# Altium footprint library switch-dil.PCBLIB: 88 footprints (part 1 of 6)
Each footprint in its own frame and in the unit in brackets; x right, y up, seen from the top. Pads: shape width x height; smd on the part's side, far side on the other; paste and mask are expansions set on the pad; w line width, h text height; cw(c..) or ccw(c..) is an arc to the next point about the centre after c.
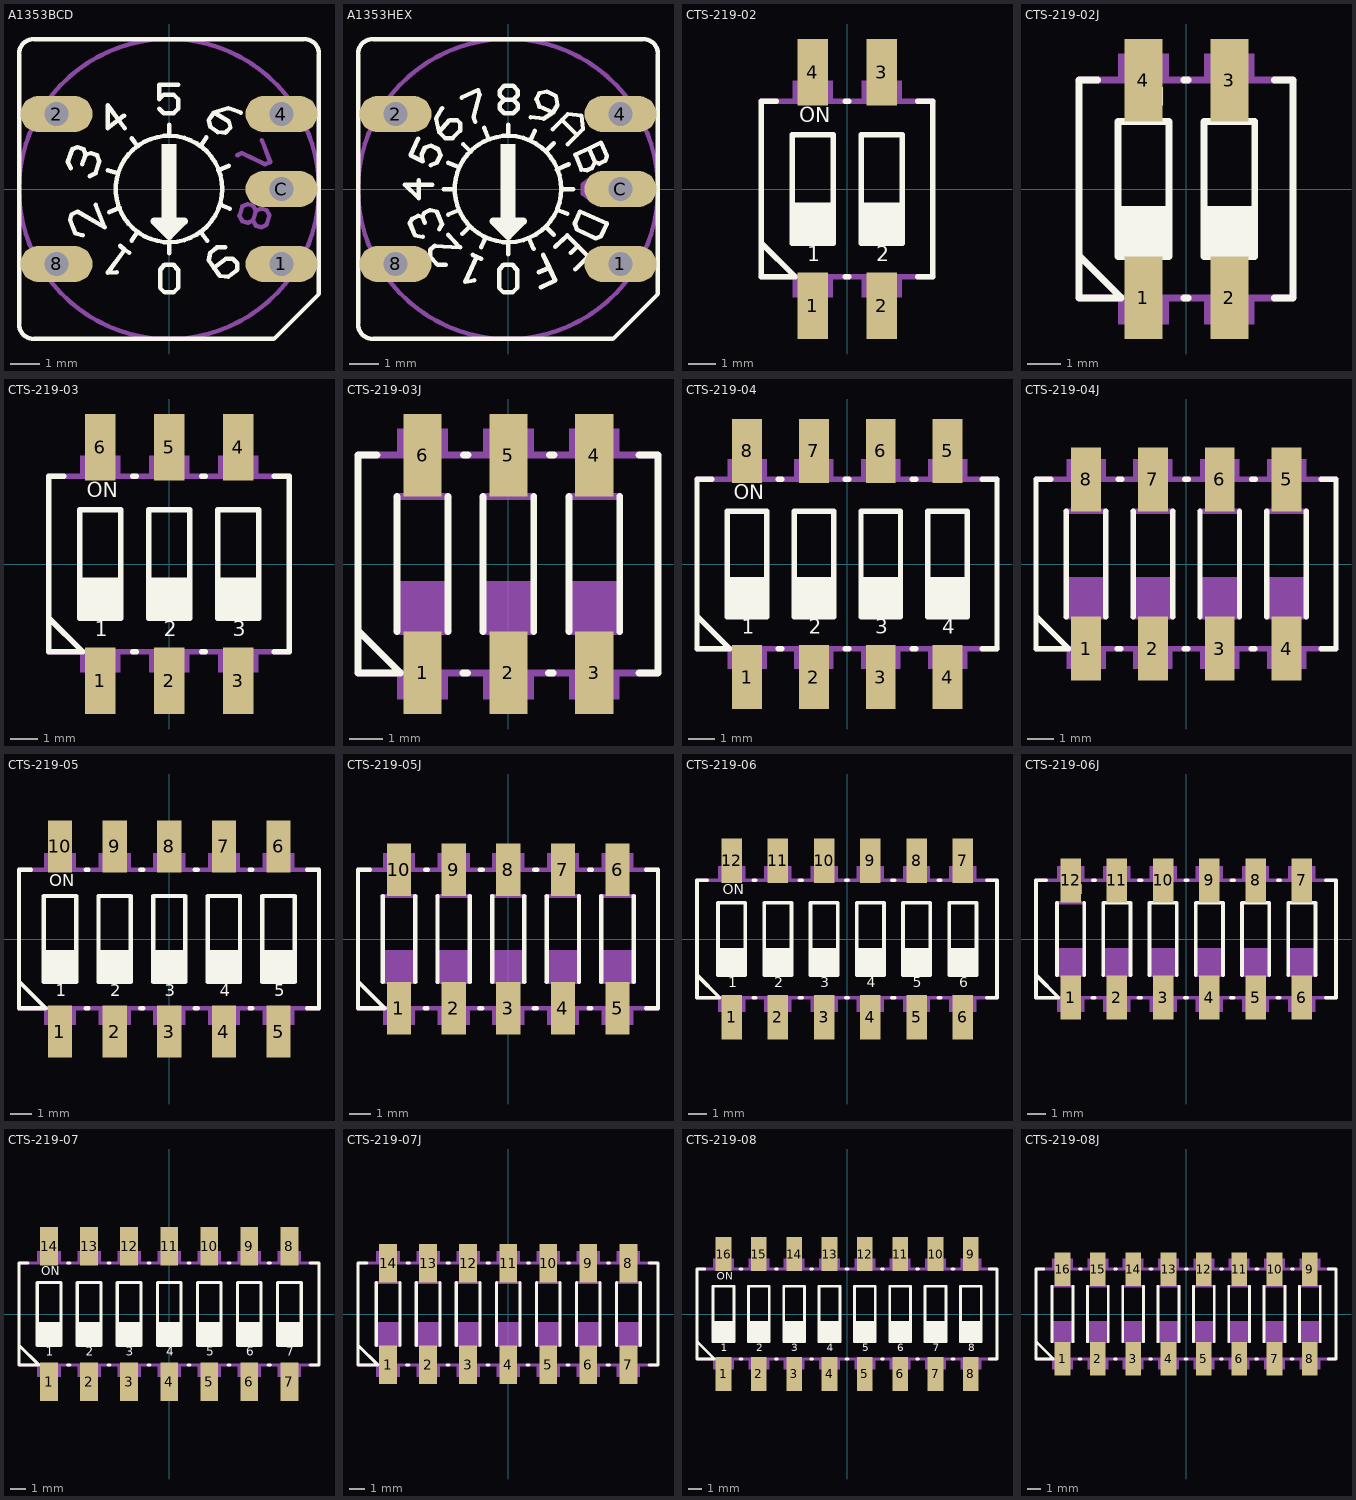
[diagram p0: the footprints below, top view; thin cyan lines are the x and y axes]

## A1353BCD [mil]
pads (5):
  oval 96x48 hole 32: 1(150,-100) 2(-150,100) 4(150,100) 8(-150,-100) C(150,0)
Top Overlay:
  circle w6: c0,0 r71
  rectangle: -10,-40 10,60
  lines w6: -131,28 -135,36 -129,53 -122,56 -114,53 -111,46 ; -116,33 -111,46 ; -115,-62 -125,-59 -132,-41 -130,-34 -122,-30 -86,-51 -98,-21 ; -106,17 -98,21 -93,37 -96,45 -104,48 -111,46 ; -82,25 -68,21 ; -80,-31 -66,-25 ; -70,-111 -82,-112 -59,-81 ; -65,-76 -59,-81 ; -60,98 -82,81 -82,112 -59,81 ; -53,-85 -59,-81 ; -50,-69 -42,-57 ; -50,68 -42,57 ; -13,107 -7,101 6,101 12,107 12,120 6,126 -7,126 -13,120 -13,139 12,139 ; 0,-86 0,-72 ; 0,71 0,86 ; 42,-57 51,-69 ; 42,57 50,69 ; 66,25 80,31 ; 68,-21 81,-26 ; 75,-78 64,-78 55,-85 53,-95 60,-105 ; 96,102 79,108 60,102 ; 60,-105 76,-93 85,-93 91,-99 91,-108 79,-117 68,-116 60,-105 ; 60,102 80,90 82,82 75,75 65,76 55,83 53,92 60,102 ; -200,-180 ccw(c-180,-180) -180,-200 140,-200 200,-140 200,180 ccw(c180,180) 180,200 -180,200 ccw(c-180,180) -200,180 -200,-180 ; -12,-132 -12,-108 -6,-101 6,-101 12,-108 12,-132 6,-138 -6,-138 -12,-132
  lines w10: -10,-48 10,-48 ; 0,-58 0,-53 ; -20,-43 0,-63 20,-43 -20,-43
Mechanical 16:
  circle w6: c0,0 r200
  lines w6: 91,45 97,48 128,33 135,36 124,65 ; 112,-42 116,-29 ; 112,-42 105,-45 98,-43 94,-36 98,-23 105,-20 112,-22 116,-29 ; 112,-42 116,-49 123,-51 130,-48 134,-35 130,-28 123,-26 116,-29

## A1353HEX [mil]
pads (5):
  oval 96x48 hole 32: 1(150,-100) 2(-150,100) 4(150,100) 8(-150,-100) C(150,0)
Top Overlay:
  circle w6: c0,0 r71
  rectangle: -10,-40 10,60
  lines w6: -120,67 -130,45 -114,37 -115,46 -111,55 -103,58 -93,53 -90,45 -95,35 -103,32 ; -119,12 -119,-12 -138,6 -101,6 ; -114,-64 -124,-62 -131,-45 -128,-40 -120,-36 -114,-37 ; -111,-45 -114,-37 ; -92,-54 -88,-47 -95,-30 -104,-28 -112,-32 -114,-37 ; -88,108 -96,94 -92,76 ; -86,0 -71,0 ; -83,-101 -94,-101 -104,-90 -104,-81 -98,-76 -64,-78 -80,-61 ; -80,-34 -65,-28 ; -80,35 -65,29 ; -62,122 -40,132 -38,126 -46,96 -44,90 ; -61,-60 -51,-50 ; -60,60 -50,50 ; -47,-88 -36,-93 ; -45,-122 -57,-124 -42,-91 ; -36,-78 -30,-65 ; -32,82 -26,67 ; 0,-87 0,-72 ; 0,71 0,86 ; 28,-66 34,-80 ; 30,65 36,78 ; 30,96 48,94 60,102 ; 41,-111 55,-105 ; 44,-131 63,-122 55,-105 ; 47,-88 55,-105 ; 51,-51 61,-61 ; 51,51 61,61 ; 60,80 72,92 ; 63,-77 79,-62 93,-76 ; 65,26 81,33 ; 66,-28 79,-33 ; 72,0 87,0 ; 80,60 92,72 ; 84,-85 93,-76 ; 90,-107 107,-90 93,-76 ; -92,76 -78,92 -68,92 -64,88 -64,78 -74,68 -84,68 -92,76 ; -5,119 -11,125 -11,131 -5,138 7,138 13,131 13,125 7,119 ; -5,119 -11,113 -11,107 -5,101 7,101 13,107 13,113 7,119 ; -5,119 7,119 ; 60,102 42,110 38,120 42,128 52,130 64,124 66,112 60,102 ; 72,92 92,72 ; 72,92 80,100 98,98 100,80 92,72 ; 108,54 90,46 98,26 105,25 112,28 116,36 ; 108,54 116,36 ; 108,54 124,62 132,44 130,38 122,34 116,36 ; -200,-180 ccw(c-180,-180) -180,-200 140,-200 200,-140 200,180 ccw(c180,180) 180,200 -180,200 ccw(c-180,180) -200,180 -200,-180 ; -12,-132 -12,-108 -6,-101 6,-101 12,-108 12,-132 6,-138 -6,-138 -12,-132 ; 89,-46 96,-30 132,-46 124,-63 117,-66 92,-54 89,-46
  lines w10: -10,-48 10,-48 ; 0,-58 0,-53 ; -20,-43 0,-63 20,-43 -20,-43
Mechanical 16:
  circle w6: c0,0 r200
  lines w6: 108,-12 100,-6 100,6 108,12 132,12 138,6 138,-6 132,-12

## CTS-219-02 [mil]
pads (4):
  rect 44.49x96.06 smd: 1(-50,-169.29) 2(50,-169.29) 3(50,169.29) 4(-50,169.29)
Top Overlay:
  rectangle: -79.53,-78.74 -20.47,-19.69
  rectangle: 20.47,-78.74 79.53,-19.69
  lines w8: -124.02,-78.74 -75.79,-126.97 ; -103.15,-126.97 -75.79,-126.97 ; -103.15,126.97 -125,126.97 -125,-126.97 -75.79,-126.97 ; -3.15,-126.97 2.17,-126.97 ; -3.15,126.97 2.17,126.97 ; 102.17,-126.97 124.02,-126.97 124.02,126.97 102.17,126.97 ; -79.53,-78.74 -20.47,-78.74 -20.47,78.74 -79.53,78.74 -79.53,-78.74 ; 20.47,-78.74 79.53,-78.74 79.53,78.74 20.47,78.74 20.47,-78.74
  text "ON" at -69.69,89.57 h37.2
  text "1" at -57.87,-112.2 h37.2
  text "2" at 42.13,-112.2 h37.2
Mechanical 16:
  region: -20.47,-127.95 -79.53,-127.95 -79.53,-157.48 -20.47,-157.48
  region: 79.53,-127.95 20.47,-127.95 20.47,-157.48 79.53,-157.48
  rectangle: -79.53,127.95 -20.47,157.48
  region: -40.16,194.88 -59.84,194.88 -59.84,157.48 -40.16,157.48
  rectangle: 20.47,127.95 79.53,157.48
  region: 59.84,194.88 40.16,194.88 40.16,157.48 59.84,157.48
  rectangle: -59.84,-194.88 -40.16,-157.48
  rectangle: 40.16,-194.88 59.84,-157.48
  lines w8: -125,-126.97 124.02,-126.97 ; -125,126.97 124.02,126.97

## CTS-219-02J [mil]
pads (4):
  rect 44.49x96.06 smd: 1(-50,-126.57) 2(50,-126.57) 3(50,126.57) 4(-50,126.57)
Top Overlay:
  rectangle: -79.53,-78.74 -20.47,-19.69
  rectangle: 20.47,-78.74 79.53,-19.69
  lines w8: -124.02,-78.74 -75.79,-126.97 ; -103.15,-126.97 -75.79,-126.97 ; -103.15,126.97 -125,126.97 -125,-126.97 -75.79,-126.97 ; -3.15,-126.97 2.17,-126.97 ; -3.15,126.97 2.17,126.97 ; 102.17,-126.97 124.02,-126.97 124.02,126.97 102.17,126.97 ; -79.53,-78.74 -20.47,-78.74 -20.47,78.74 -79.53,78.74 -79.53,-78.74 ; 20.47,-78.74 79.53,-78.74 79.53,78.74 20.47,78.74 20.47,-78.74
  text "ON" at -69.69,89.57 h37.2
  text "1" at -57.87,-112.2 h37.2
  text "2" at 42.13,-112.2 h37.2
Mechanical 16:
  region: -20.47,-127.95 -79.53,-127.95 -79.53,-157.48 -20.47,-157.48
  region: 79.53,-127.95 20.47,-127.95 20.47,-157.48 79.53,-157.48
  rectangle: -79.53,127.95 -20.47,157.48
  rectangle: 20.47,127.95 79.53,157.48
  lines w8: -125,-126.97 124.02,-126.97 ; -125,126.97 124.02,126.97

## CTS-219-03 [mil]
pads (6):
  rect 44.49x96.06 smd: 1(-100,-169.29) 2(0,-169.29) 3(100,-169.29) 4(100,169.29) 5(0,169.29) 6(-100,169.29)
Top Overlay:
  rectangle: -129.53,-78.74 -70.47,-19.69
  rectangle: -29.53,-78.74 29.53,-19.69
  rectangle: 70.47,-78.74 129.53,-19.69
  lines w8: -174.02,-78.74 -125.79,-126.97 ; -153.15,-126.97 -125.79,-126.97 ; -153.15,126.97 -175,126.97 -175,-126.97 -125.79,-126.97 ; -53.15,-126.97 -47.83,-126.97 ; -53.15,126.97 -47.83,126.97 ; 46.85,-126.97 52.17,-126.97 ; 46.85,126.97 52.17,126.97 ; 152.17,-126.97 174.02,-126.97 174.02,126.97 152.17,126.97 ; -129.53,-78.74 -70.47,-78.74 -70.47,78.74 -129.53,78.74 -129.53,-78.74 ; -29.53,-78.74 29.53,-78.74 29.53,78.74 -29.53,78.74 -29.53,-78.74 ; 70.47,-78.74 129.53,-78.74 129.53,78.74 70.47,78.74 70.47,-78.74
  text "ON" at -119.69,89.57 h37.2
  text "1" at -107.87,-112.2 h37.2
  text "2" at -7.87,-112.2 h37.2
  text "3" at 92.13,-112.2 h37.2
Mechanical 16:
  region: -70.47,-127.95 -129.53,-127.95 -129.53,-157.48 -70.47,-157.48
  region: 129.53,-127.95 70.47,-127.95 70.47,-157.48 129.53,-157.48
  region: 29.53,-127.95 -29.53,-127.95 -29.53,-157.48 29.53,-157.48
  rectangle: 70.47,127.95 129.53,157.48
  rectangle: -129.53,127.95 -70.47,157.48
  rectangle: -29.53,127.95 29.53,157.48
  region: -90.16,194.88 -109.84,194.88 -109.84,157.48 -90.16,157.48
  rectangle: -109.84,-194.88 -90.16,-157.48
  region: 9.84,194.88 -9.84,194.88 -9.84,157.48 9.84,157.48
  rectangle: -9.84,-194.88 9.84,-157.48
  region: 109.84,194.88 90.16,194.88 90.16,157.48 109.84,157.48
  rectangle: 90.16,-194.88 109.84,-157.48
  lines w8: -175,-126.97 174.02,-126.97 ; -175,126.97 174.02,126.97

## CTS-219-03J [mil]
pads (6):
  rect 44.49x96.06 smd: 1(-100,-126.57) 2(0,-126.57) 3(100,-126.57) 4(100,126.57) 5(0,126.57) 6(-100,126.57)
Top Overlay:
  lines w8: -174.02,-78.74 -125.79,-126.97 ; -153.15,-126.97 -125.79,-126.97 ; -153.15,126.97 -175,126.97 -175,-126.97 -125.79,-126.97 ; -129.53,-78.74 -129.53,78.74 ; -70.47,-78.74 -70.47,78.74 ; -53.15,-126.97 -47.83,-126.97 ; -52.17,126.97 -46.85,126.97 ; -29.53,-78.74 -29.53,78.74 ; 29.53,-78.74 29.53,78.74 ; 46.85,-126.97 52.17,-126.97 ; 47.83,126.97 53.15,126.97 ; 70.47,-78.74 70.47,78.74 ; 129.53,-78.74 129.53,78.74 ; 152.17,-126.97 174.02,-126.97 174.02,126.97 152.17,126.97
Mechanical 16:
  region: -70.47,-127.95 -129.53,-127.95 -129.53,-157.48 -70.47,-157.48
  rectangle: -129.53,-78.74 -70.47,-19.69
  region: 129.53,-127.95 70.47,-127.95 70.47,-157.48 129.53,-157.48
  region: 29.53,-127.95 -29.53,-127.95 -29.53,-157.48 29.53,-157.48
  rectangle: -29.53,-78.74 29.53,-19.69
  rectangle: 70.47,-78.74 129.53,-19.69
  rectangle: 70.47,127.95 129.53,157.48
  rectangle: -129.53,127.95 -70.47,157.48
  rectangle: -29.53,127.95 29.53,157.48
  lines w8: -175,-126.97 174.02,-126.97 ; -175,126.97 174.02,126.97 ; -129.53,-78.74 -70.47,-78.74 ; -129.53,78.74 -70.47,78.74 ; -29.53,-78.74 29.53,-78.74 ; -29.53,78.74 29.53,78.74 ; 70.47,-78.74 129.53,-78.74 ; 70.47,78.74 129.53,78.74
  text "ON" at -119.69,89.57 h37.2
  text "1" at -107.87,-112.2 h37.2
  text "2" at -7.87,-112.2 h37.2
  text "3" at 92.13,-112.2 h37.2

## CTS-219-04 [mil]
pads (8):
  rect 44.49x96.06 smd: 1(-150,-169.29) 2(-50,-169.29) 3(50,-169.29) 4(150,-169.29) 5(150,169.29) 6(50,169.29) 7(-50,169.29) 8(-150,169.29)
Top Overlay:
  rectangle: -179.53,-78.74 -120.47,-19.69
  rectangle: -79.53,-78.74 -20.47,-19.69
  rectangle: 20.47,-78.74 79.53,-19.69
  rectangle: 120.47,-78.74 179.53,-19.69
  lines w8: -224.02,-78.74 -175.79,-126.97 ; -203.15,-126.97 -175.79,-126.97 ; -203.15,126.97 -225,126.97 -225,-126.97 -175.79,-126.97 ; -103.15,-126.97 -97.83,-126.97 ; -103.15,126.97 -97.83,126.97 ; -3.15,-126.97 2.17,-126.97 ; -3.15,126.97 2.17,126.97 ; 96.85,-126.97 102.17,-126.97 ; 96.85,126.97 102.17,126.97 ; 202.17,-126.97 224.02,-126.97 224.02,126.97 202.17,126.97 ; -179.53,-78.74 -120.47,-78.74 -120.47,78.74 -179.53,78.74 -179.53,-78.74 ; -79.53,-78.74 -20.47,-78.74 -20.47,78.74 -79.53,78.74 -79.53,-78.74 ; 20.47,-78.74 79.53,-78.74 79.53,78.74 20.47,78.74 20.47,-78.74 ; 120.47,-78.74 179.53,-78.74 179.53,78.74 120.47,78.74 120.47,-78.74
  text "ON" at -169.69,89.57 h37.2
  text "1" at -157.87,-112.2 h37.2
  text "2" at -57.87,-112.2 h37.2
  text "3" at 42.13,-112.2 h37.2
  text "4" at 142.13,-112.2 h37.2
Mechanical 16:
  region: -120.47,-127.95 -179.53,-127.95 -179.53,-157.48 -120.47,-157.48
  region: 79.53,-127.95 20.47,-127.95 20.47,-157.48 79.53,-157.48
  region: -20.47,-127.95 -79.53,-127.95 -79.53,-157.48 -20.47,-157.48
  region: 179.53,-127.95 120.47,-127.95 120.47,-157.48 179.53,-157.48
  rectangle: 120.47,127.95 179.53,157.48
  rectangle: -79.53,127.95 -20.47,157.48
  rectangle: 20.47,127.95 79.53,157.48
  rectangle: -179.53,127.95 -120.47,157.48
  region: -140.16,194.88 -159.84,194.88 -159.84,157.48 -140.16,157.48
  rectangle: -159.84,-194.88 -140.16,-157.48
  region: -40.16,194.88 -59.84,194.88 -59.84,157.48 -40.16,157.48
  rectangle: -59.84,-194.88 -40.16,-157.48
  region: 59.84,194.88 40.16,194.88 40.16,157.48 59.84,157.48
  rectangle: 40.16,-194.88 59.84,-157.48
  region: 159.84,194.88 140.16,194.88 140.16,157.48 159.84,157.48
  rectangle: 140.16,-194.88 159.84,-157.48
  lines w8: -225,-126.97 224.02,-126.97 ; -225,126.97 224.02,126.97

## CTS-219-04J [mil]
pads (8):
  rect 44.49x96.06 smd: 1(-150,-126.57) 2(-50,-126.57) 3(50,-126.57) 4(150,-126.57) 5(150,126.57) 6(50,126.57) 7(-50,126.57) 8(-150,126.57)
Top Overlay:
  lines w8: -224.02,-78.74 -175.79,-126.97 ; -203.15,-126.97 -175.79,-126.97 ; -203.15,126.97 -225,126.97 -225,-126.97 -175.79,-126.97 ; -179.53,-78.74 -179.53,78.74 ; -120.47,-78.74 -120.47,78.74 ; -103.15,-126.97 -97.83,-126.97 ; -102.17,126.97 -96.85,126.97 ; -79.53,-78.74 -79.53,78.74 ; -20.47,-78.74 -20.47,78.74 ; -3.15,-126.97 2.17,-126.97 ; -2.17,126.97 3.15,126.97 ; 20.47,-78.74 20.47,78.74 ; 79.53,-78.74 79.53,78.74 ; 96.85,-126.97 102.17,-126.97 ; 97.83,126.97 103.15,126.97 ; 120.47,-78.74 120.47,78.74 ; 179.53,-78.74 179.53,78.74 ; 202.17,-126.97 224.02,-126.97 224.02,126.97 202.17,126.97
Mechanical 16:
  region: -120.47,-127.95 -179.53,-127.95 -179.53,-157.48 -120.47,-157.48
  rectangle: -179.53,-78.74 -120.47,-19.69
  region: 79.53,-127.95 20.47,-127.95 20.47,-157.48 79.53,-157.48
  region: -20.47,-127.95 -79.53,-127.95 -79.53,-157.48 -20.47,-157.48
  rectangle: -79.53,-78.74 -20.47,-19.69
  rectangle: 20.47,-78.74 79.53,-19.69
  rectangle: 120.47,-78.74 179.53,-19.69
  region: 179.53,-127.95 120.47,-127.95 120.47,-157.48 179.53,-157.48
  rectangle: 120.47,127.95 179.53,157.48
  rectangle: -79.53,127.95 -20.47,157.48
  rectangle: 20.47,127.95 79.53,157.48
  rectangle: -179.53,127.95 -120.47,157.48
  lines w8: -225,-126.97 224.02,-126.97 ; -225,126.97 224.02,126.97 ; -179.53,-78.74 -120.47,-78.74 ; -179.53,78.74 -120.47,78.74 ; -79.53,-78.74 -20.47,-78.74 ; -79.53,78.74 -20.47,78.74 ; 20.47,-78.74 79.53,-78.74 ; 20.47,78.74 79.53,78.74 ; 120.47,-78.74 179.53,-78.74 ; 120.47,78.74 179.53,78.74
  text "ON" at -169.69,89.57 h37.2
  text "1" at -157.87,-112.2 h37.2
  text "2" at -57.87,-112.2 h37.2
  text "3" at 42.13,-112.2 h37.2
  text "4" at 142.13,-112.2 h37.2

## CTS-219-05 [mil]
pads (10):
  rect 44.49x96.06 smd: 1(-200,-169.29) 2(-100,-169.29) 3(0,-169.29) 4(100,-169.29) 5(200,-169.29) 6(200,169.29) 7(100,169.29) 8(0,169.29) 9(-100,169.29) 10(-200,169.29)
Top Overlay:
  rectangle: -229.53,-78.74 -170.47,-19.69
  rectangle: -129.53,-78.74 -70.47,-19.69
  rectangle: -29.53,-78.74 29.53,-19.69
  rectangle: 70.47,-78.74 129.53,-19.69
  rectangle: 170.47,-78.74 229.53,-19.69
  lines w8: -274.02,-78.74 -225.79,-126.97 ; -253.15,-126.97 -225.79,-126.97 ; -253.15,126.97 -275,126.97 -275,-126.97 -225.79,-126.97 ; -153.15,-126.97 -147.83,-126.97 ; -153.15,126.97 -147.83,126.97 ; -53.15,-126.97 -47.83,-126.97 ; -53.15,126.97 -47.83,126.97 ; 46.85,-126.97 52.17,-126.97 ; 46.85,126.97 52.17,126.97 ; 146.85,-126.97 152.17,-126.97 ; 146.85,126.97 152.17,126.97 ; 252.17,-126.97 274.02,-126.97 274.02,126.97 252.17,126.97 ; -229.53,-78.74 -170.47,-78.74 -170.47,78.74 -229.53,78.74 -229.53,-78.74 ; -129.53,-78.74 -70.47,-78.74 -70.47,78.74 -129.53,78.74 -129.53,-78.74 ; -29.53,-78.74 29.53,-78.74 29.53,78.74 -29.53,78.74 -29.53,-78.74 ; 70.47,-78.74 129.53,-78.74 129.53,78.74 70.47,78.74 70.47,-78.74 ; 170.47,-78.74 229.53,-78.74 229.53,78.74 170.47,78.74 170.47,-78.74
  text "ON" at -219.69,89.57 h37.2
  text "1" at -207.87,-112.2 h37.2
  text "2" at -107.87,-112.2 h37.2
  text "3" at -7.87,-112.2 h37.2
  text "4" at 92.13,-112.2 h37.2
  text "5" at 192.13,-112.2 h37.2
Mechanical 16:
  region: -170.47,-127.95 -229.53,-127.95 -229.53,-157.48 -170.47,-157.48
  region: 29.53,-127.95 -29.53,-127.95 -29.53,-157.48 29.53,-157.48
  region: -70.47,-127.95 -129.53,-127.95 -129.53,-157.48 -70.47,-157.48
  region: 129.53,-127.95 70.47,-127.95 70.47,-157.48 129.53,-157.48
  region: 229.53,-127.95 170.47,-127.95 170.47,-157.48 229.53,-157.48
  rectangle: 170.47,127.95 229.53,157.48
  rectangle: -29.53,127.95 29.53,157.48
  rectangle: 70.47,127.95 129.53,157.48
  rectangle: -129.53,127.95 -70.47,157.48
  rectangle: -229.53,127.95 -170.47,157.48
  region: -190.16,194.88 -209.84,194.88 -209.84,157.48 -190.16,157.48
  rectangle: -209.84,-194.88 -190.16,-157.48
  region: -90.16,194.88 -109.84,194.88 -109.84,157.48 -90.16,157.48
  rectangle: -109.84,-194.88 -90.16,-157.48
  region: 9.84,194.88 -9.84,194.88 -9.84,157.48 9.84,157.48
  rectangle: -9.84,-194.88 9.84,-157.48
  region: 109.84,194.88 90.16,194.88 90.16,157.48 109.84,157.48
  rectangle: 90.16,-194.88 109.84,-157.48
  region: 209.84,194.88 190.16,194.88 190.16,157.48 209.84,157.48
  rectangle: 190.16,-194.88 209.84,-157.48
  lines w8: -275,-126.97 274.02,-126.97 ; -275,126.97 274.02,126.97

## CTS-219-05J [mil]
pads (10):
  rect 44.49x96.06 smd: 1(-200,-126.57) 2(-100,-126.57) 3(0,-126.57) 4(100,-126.57) 5(200,-126.57) 6(200,126.57) 7(100,126.57) 8(0,126.57) 9(-100,126.57) 10(-200,126.57)
Top Overlay:
  lines w8: -274.02,-78.74 -225.79,-126.97 ; -253.15,-126.97 -225.79,-126.97 ; -253.15,126.97 -275,126.97 -275,-126.97 -225.79,-126.97 ; -229.53,-78.74 -229.53,78.74 ; -170.47,-78.74 -170.47,78.74 ; -153.15,-126.97 -147.83,-126.97 ; -152.17,126.97 -146.85,126.97 ; -129.53,-78.74 -129.53,78.74 ; -70.47,-78.74 -70.47,78.74 ; -53.15,-126.97 -47.83,-126.97 ; -52.17,126.97 -46.85,126.97 ; -29.53,-78.74 -29.53,78.74 ; 29.53,-78.74 29.53,78.74 ; 46.85,-126.97 52.17,-126.97 ; 47.83,126.97 53.15,126.97 ; 70.47,-78.74 70.47,78.74 ; 129.53,-78.74 129.53,78.74 ; 146.85,-126.97 152.17,-126.97 ; 147.83,126.97 153.15,126.97 ; 170.47,-78.74 170.47,78.74 ; 229.53,-78.74 229.53,78.74 ; 252.17,-126.97 274.02,-126.97 274.02,126.97 252.17,126.97
Mechanical 16:
  region: -170.47,-127.95 -229.53,-127.95 -229.53,-157.48 -170.47,-157.48
  rectangle: -229.53,-78.74 -170.47,-19.69
  region: 29.53,-127.95 -29.53,-127.95 -29.53,-157.48 29.53,-157.48
  region: -70.47,-127.95 -129.53,-127.95 -129.53,-157.48 -70.47,-157.48
  rectangle: -129.53,-78.74 -70.47,-19.69
  rectangle: -29.53,-78.74 29.53,-19.69
  rectangle: 70.47,-78.74 129.53,-19.69
  rectangle: 170.47,-78.74 229.53,-19.69
  region: 129.53,-127.95 70.47,-127.95 70.47,-157.48 129.53,-157.48
  region: 229.53,-127.95 170.47,-127.95 170.47,-157.48 229.53,-157.48
  rectangle: 170.47,127.95 229.53,157.48
  rectangle: -29.53,127.95 29.53,157.48
  rectangle: 70.47,127.95 129.53,157.48
  rectangle: -129.53,127.95 -70.47,157.48
  rectangle: -229.53,127.95 -170.47,157.48
  lines w8: -275,-126.97 274.02,-126.97 ; -275,126.97 274.02,126.97 ; -229.53,-78.74 -170.47,-78.74 ; -229.53,78.74 -170.47,78.74 ; -129.53,-78.74 -70.47,-78.74 ; -129.53,78.74 -70.47,78.74 ; -29.53,-78.74 29.53,-78.74 ; -29.53,78.74 29.53,78.74 ; 70.47,-78.74 129.53,-78.74 ; 70.47,78.74 129.53,78.74 ; 170.47,-78.74 229.53,-78.74 ; 170.47,78.74 229.53,78.74
  text "ON" at -219.69,89.57 h37.2
  text "1" at -207.87,-112.2 h37.2
  text "2" at -107.87,-112.2 h37.2
  text "3" at -7.87,-112.2 h37.2
  text "4" at 92.13,-112.2 h37.2
  text "5" at 192.13,-112.2 h37.2

## CTS-219-06 [mil]
pads (12):
  rect 44.49x96.06 smd: 1(-250,-169.29) 2(-150,-169.29) 3(-50,-169.29) 4(50,-169.29) 5(150,-169.29) 6(250,-169.29) 7(250,169.29) 8(150,169.29) 9(50,169.29) 10(-50,169.29) 11(-150,169.29) 12(-250,169.29)
Top Overlay:
  rectangle: -279.53,-78.74 -220.47,-19.69
  rectangle: -179.53,-78.74 -120.47,-19.69
  rectangle: -79.53,-78.74 -20.47,-19.69
  rectangle: 20.47,-78.74 79.53,-19.69
  rectangle: 120.47,-78.74 179.53,-19.69
  rectangle: 220.47,-78.74 279.53,-19.69
  lines w8: -324.02,-78.74 -275.79,-126.97 ; -303.15,-126.97 -275.79,-126.97 ; -303.15,126.97 -325,126.97 -325,-126.97 -275.79,-126.97 ; -203.15,-126.97 -197.83,-126.97 ; -203.15,126.97 -197.83,126.97 ; -103.15,-126.97 -97.83,-126.97 ; -103.15,126.97 -97.83,126.97 ; -3.15,-126.97 2.17,-126.97 ; -3.15,126.97 2.17,126.97 ; 96.85,-126.97 102.17,-126.97 ; 96.85,126.97 102.17,126.97 ; 196.85,-126.97 202.17,-126.97 ; 196.85,126.97 202.17,126.97 ; 302.17,-126.97 324.02,-126.97 324.02,126.97 302.17,126.97 ; -279.53,-78.74 -220.47,-78.74 -220.47,78.74 -279.53,78.74 -279.53,-78.74 ; -179.53,-78.74 -120.47,-78.74 -120.47,78.74 -179.53,78.74 -179.53,-78.74 ; -79.53,-78.74 -20.47,-78.74 -20.47,78.74 -79.53,78.74 -79.53,-78.74 ; 20.47,-78.74 79.53,-78.74 79.53,78.74 20.47,78.74 20.47,-78.74 ; 120.47,-78.74 179.53,-78.74 179.53,78.74 120.47,78.74 120.47,-78.74 ; 220.47,-78.74 279.53,-78.74 279.53,78.74 220.47,78.74 220.47,-78.74
  text "ON" at -269.69,89.57 h37.2
  text "1" at -257.87,-112.2 h37.2
  text "2" at -157.87,-112.2 h37.2
  text "3" at -57.87,-112.2 h37.2
  text "4" at 42.13,-112.2 h37.2
  text "5" at 142.13,-112.2 h37.2
  text "6" at 242.13,-112.2 h37.2
Mechanical 16:
  region: -220.47,-127.95 -279.53,-127.95 -279.53,-157.48 -220.47,-157.48
  region: -20.47,-127.95 -79.53,-127.95 -79.53,-157.48 -20.47,-157.48
  region: -120.47,-127.95 -179.53,-127.95 -179.53,-157.48 -120.47,-157.48
  region: 79.53,-127.95 20.47,-127.95 20.47,-157.48 79.53,-157.48
  region: 279.53,-127.95 220.47,-127.95 220.47,-157.48 279.53,-157.48
  region: 179.53,-127.95 120.47,-127.95 120.47,-157.48 179.53,-157.48
  rectangle: 220.47,127.95 279.53,157.48
  rectangle: 20.47,127.95 79.53,157.48
  rectangle: 120.47,127.95 179.53,157.48
  rectangle: -79.53,127.95 -20.47,157.48
  rectangle: -279.53,127.95 -220.47,157.48
  rectangle: -179.53,127.95 -120.47,157.48
  region: -240.16,194.88 -259.84,194.88 -259.84,157.48 -240.16,157.48
  rectangle: -259.84,-194.88 -240.16,-157.48
  region: -140.16,194.88 -159.84,194.88 -159.84,157.48 -140.16,157.48
  rectangle: -159.84,-194.88 -140.16,-157.48
  region: -40.16,194.88 -59.84,194.88 -59.84,157.48 -40.16,157.48
  rectangle: -59.84,-194.88 -40.16,-157.48
  region: 59.84,194.88 40.16,194.88 40.16,157.48 59.84,157.48
  rectangle: 40.16,-194.88 59.84,-157.48
  region: 159.84,194.88 140.16,194.88 140.16,157.48 159.84,157.48
  rectangle: 140.16,-194.88 159.84,-157.48
  region: 259.84,194.88 240.16,194.88 240.16,157.48 259.84,157.48
  rectangle: 240.16,-194.88 259.84,-157.48
  lines w8: -325,-126.97 324.02,-126.97 ; -325,126.97 324.02,126.97

## CTS-219-06J [mil]
pads (12):
  rect 44.49x96.06 smd: 1(-250,-126.57) 2(-150,-126.57) 3(-50,-126.57) 4(50,-126.57) 5(150,-126.57) 6(250,-126.57) 7(250,126.57) 8(150,126.57) 9(50,126.57) 10(-50,126.57) 11(-150,126.57) 12(-250,126.57)
Top Overlay:
  lines w8: -324.02,-78.74 -275.79,-126.97 ; -303.15,-126.97 -275.79,-126.97 ; -303.15,126.97 -325,126.97 -325,-126.97 -275.79,-126.97 ; -279.53,-78.74 -279.53,78.74 ; -220.47,-78.74 -220.47,78.74 ; -203.15,-126.97 -197.83,-126.97 ; -202.17,126.97 -196.85,126.97 ; -179.53,-78.74 -179.53,78.74 -120.47,78.74 -120.47,-78.74 ; -103.15,-126.97 -97.83,-126.97 ; -102.17,126.97 -96.85,126.97 ; -79.53,-78.74 -79.53,78.74 -20.47,78.74 -20.47,-78.74 ; -3.15,-126.97 2.17,-126.97 ; -2.17,126.97 3.15,126.97 ; 20.47,-78.74 20.47,78.74 79.53,78.74 79.53,-78.74 ; 96.85,-126.97 102.17,-126.97 ; 97.83,126.97 103.15,126.97 ; 120.47,-78.74 120.47,78.74 179.53,78.74 179.53,-78.74 ; 196.85,-126.97 202.17,-126.97 ; 197.83,126.97 203.15,126.97 ; 220.47,-78.74 220.47,78.74 279.53,78.74 279.53,-78.74 ; 302.17,-126.97 324.02,-126.97 324.02,126.97 302.17,126.97
  text "ON" at -269.69,89.57 h37.2
Mechanical 16:
  region: -220.47,-127.95 -279.53,-127.95 -279.53,-157.48 -220.47,-157.48
  rectangle: -279.53,-78.74 -220.47,-19.69
  region: -20.47,-127.95 -79.53,-127.95 -79.53,-157.48 -20.47,-157.48
  region: -120.47,-127.95 -179.53,-127.95 -179.53,-157.48 -120.47,-157.48
  rectangle: -179.53,-78.74 -120.47,-19.69
  rectangle: -79.53,-78.74 -20.47,-19.69
  rectangle: 20.47,-78.74 79.53,-19.69
  rectangle: 120.47,-78.74 179.53,-19.69
  rectangle: 220.47,-78.74 279.53,-19.69
  region: 79.53,-127.95 20.47,-127.95 20.47,-157.48 79.53,-157.48
  region: 279.53,-127.95 220.47,-127.95 220.47,-157.48 279.53,-157.48
  region: 179.53,-127.95 120.47,-127.95 120.47,-157.48 179.53,-157.48
  rectangle: 220.47,127.95 279.53,157.48
  rectangle: 20.47,127.95 79.53,157.48
  rectangle: 120.47,127.95 179.53,157.48
  rectangle: -79.53,127.95 -20.47,157.48
  rectangle: -279.53,127.95 -220.47,157.48
  rectangle: -179.53,127.95 -120.47,157.48
  lines w8: -325,-126.97 324.02,-126.97 ; -325,126.97 324.02,126.97 ; -279.53,-78.74 -220.47,-78.74 ; -279.53,78.74 -220.47,78.74 ; -179.53,-78.74 -120.47,-78.74 ; -79.53,-78.74 -20.47,-78.74 ; 20.47,-78.74 79.53,-78.74 ; 120.47,-78.74 179.53,-78.74 ; 220.47,-78.74 279.53,-78.74
  text "1" at -257.87,-112.2 h37.2
  text "2" at -157.87,-112.2 h37.2
  text "3" at -57.87,-112.2 h37.2
  text "4" at 42.13,-112.2 h37.2
  text "5" at 142.13,-112.2 h37.2
  text "6" at 242.13,-112.2 h37.2

## CTS-219-07 [mil]
pads (14):
  rect 44.49x96.06 smd: 1(-300,-169.29) 2(-200,-169.29) 3(-100,-169.29) 4(0,-169.29) 5(100,-169.29) 6(200,-169.29) 7(300,-169.29) 8(300,169.29) 9(200,169.29) 10(100,169.29) 11(0,169.29) 12(-100,169.29) 13(-200,169.29) 14(-300,169.29)
Top Overlay:
  rectangle: -329.53,-78.74 -270.47,-19.69
  rectangle: -229.53,-78.74 -170.47,-19.69
  rectangle: -129.53,-78.74 -70.47,-19.69
  rectangle: -29.53,-78.74 29.53,-19.69
  rectangle: 70.47,-78.74 129.53,-19.69
  rectangle: 170.47,-78.74 229.53,-19.69
  rectangle: 270.47,-78.74 329.53,-19.69
  lines w8: -374.02,-78.74 -325.79,-126.97 ; -353.15,-126.97 -325.79,-126.97 ; -353.15,126.97 -375,126.97 -375,-126.97 -325.79,-126.97 ; -253.15,-126.97 -247.83,-126.97 ; -253.15,126.97 -247.83,126.97 ; -153.15,-126.97 -147.83,-126.97 ; -153.15,126.97 -147.83,126.97 ; -53.15,-126.97 -47.83,-126.97 ; -53.15,126.97 -47.83,126.97 ; 46.85,-126.97 52.17,-126.97 ; 46.85,126.97 52.17,126.97 ; 146.85,-126.97 152.17,-126.97 ; 146.85,126.97 152.17,126.97 ; 246.85,-126.97 252.17,-126.97 ; 246.85,126.97 252.17,126.97 ; 352.17,-126.97 374.02,-126.97 374.02,126.97 352.17,126.97 ; -329.53,-78.74 -270.47,-78.74 -270.47,78.74 -329.53,78.74 -329.53,-78.74 ; -229.53,-78.74 -170.47,-78.74 -170.47,78.74 -229.53,78.74 -229.53,-78.74 ; -129.53,-78.74 -70.47,-78.74 -70.47,78.74 -129.53,78.74 -129.53,-78.74 ; -29.53,-78.74 29.53,-78.74 29.53,78.74 -29.53,78.74 -29.53,-78.74 ; 70.47,-78.74 129.53,-78.74 129.53,78.74 70.47,78.74 70.47,-78.74 ; 170.47,-78.74 229.53,-78.74 229.53,78.74 170.47,78.74 170.47,-78.74 ; 270.47,-78.74 329.53,-78.74 329.53,78.74 270.47,78.74 270.47,-78.74
  text "ON" at -319.69,89.57 h37.2
  text "1" at -307.87,-112.2 h37.2
  text "2" at -207.87,-112.2 h37.2
  text "3" at -107.87,-112.2 h37.2
  text "4" at -7.87,-112.2 h37.2
  text "5" at 92.13,-112.2 h37.2
  text "6" at 192.13,-112.2 h37.2
  text "7" at 292.13,-112.2 h37.2
Mechanical 16:
  region: -270.47,-127.95 -329.53,-127.95 -329.53,-157.48 -270.47,-157.48
  region: -70.47,-127.95 -129.53,-127.95 -129.53,-157.48 -70.47,-157.48
  region: -170.47,-127.95 -229.53,-127.95 -229.53,-157.48 -170.47,-157.48
  region: 29.53,-127.95 -29.53,-127.95 -29.53,-157.48 29.53,-157.48
  region: 229.53,-127.95 170.47,-127.95 170.47,-157.48 229.53,-157.48
  region: 129.53,-127.95 70.47,-127.95 70.47,-157.48 129.53,-157.48
  region: 329.53,-127.95 270.47,-127.95 270.47,-157.48 329.53,-157.48
  rectangle: 270.47,127.95 329.53,157.48
  rectangle: 70.47,127.95 129.53,157.48
  rectangle: 170.47,127.95 229.53,157.48
  rectangle: -29.53,127.95 29.53,157.48
  rectangle: -229.53,127.95 -170.47,157.48
  rectangle: -129.53,127.95 -70.47,157.48
  rectangle: -329.53,127.95 -270.47,157.48
  region: -290.16,194.88 -309.84,194.88 -309.84,157.48 -290.16,157.48
  rectangle: -309.84,-194.88 -290.16,-157.48
  region: -190.16,194.88 -209.84,194.88 -209.84,157.48 -190.16,157.48
  rectangle: -209.84,-194.88 -190.16,-157.48
  region: -90.16,194.88 -109.84,194.88 -109.84,157.48 -90.16,157.48
  rectangle: -109.84,-194.88 -90.16,-157.48
  region: 9.84,194.88 -9.84,194.88 -9.84,157.48 9.84,157.48
  rectangle: -9.84,-194.88 9.84,-157.48
  region: 109.84,194.88 90.16,194.88 90.16,157.48 109.84,157.48
  rectangle: 90.16,-194.88 109.84,-157.48
  region: 209.84,194.88 190.16,194.88 190.16,157.48 209.84,157.48
  rectangle: 190.16,-194.88 209.84,-157.48
  region: 309.84,194.88 290.16,194.88 290.16,157.48 309.84,157.48
  rectangle: 290.16,-194.88 309.84,-157.48
  lines w8: -375,-126.97 374.02,-126.97 ; -375,126.97 374.02,126.97

## CTS-219-07J [mil]
pads (14):
  rect 44.49x96.06 smd: 1(-300,-126.57) 2(-200,-126.57) 3(-100,-126.57) 4(0,-126.57) 5(100,-126.57) 6(200,-126.57) 7(300,-126.57) 8(300,126.57) 9(200,126.57) 10(100,126.57) 11(0,126.57) 12(-100,126.57) 13(-200,126.57) 14(-300,126.57)
Top Overlay:
  lines w8: -374.02,-78.74 -325.79,-126.97 ; -353.15,-126.97 -325.79,-126.97 ; -353.15,126.97 -375,126.97 -375,-126.97 -325.79,-126.97 ; -329.53,-78.74 -329.53,78.74 ; -270.47,-78.74 -270.47,78.74 ; -253.15,-126.97 -247.83,-126.97 ; -252.17,126.97 -246.85,126.97 ; -229.53,-78.74 -229.53,78.74 ; -170.47,-78.74 -170.47,78.74 ; -153.15,-126.97 -147.83,-126.97 ; -152.17,126.97 -146.85,126.97 ; -129.53,-78.74 -129.53,78.74 ; -70.47,-78.74 -70.47,78.74 ; -53.15,-126.97 -47.83,-126.97 ; -52.17,126.97 -46.85,126.97 ; -29.53,-78.74 -29.53,78.74 ; 29.53,-78.74 29.53,78.74 ; 46.85,-126.97 52.17,-126.97 ; 47.83,126.97 53.15,126.97 ; 70.47,-78.74 70.47,78.74 ; 129.53,-78.74 129.53,78.74 ; 146.85,-126.97 152.17,-126.97 ; 147.83,126.97 153.15,126.97 ; 170.47,-78.74 170.47,78.74 ; 229.53,-78.74 229.53,78.74 ; 246.85,-126.97 252.17,-126.97 ; 247.83,126.97 253.15,126.97 ; 270.47,-78.74 270.47,78.74 ; 329.53,-78.74 329.53,78.74 ; 352.17,-126.97 374.02,-126.97 374.02,126.97 352.17,126.97
Mechanical 16:
  region: -270.47,-127.95 -329.53,-127.95 -329.53,-157.48 -270.47,-157.48
  rectangle: -329.53,-78.74 -270.47,-19.69
  region: -70.47,-127.95 -129.53,-127.95 -129.53,-157.48 -70.47,-157.48
  region: -170.47,-127.95 -229.53,-127.95 -229.53,-157.48 -170.47,-157.48
  rectangle: -229.53,-78.74 -170.47,-19.69
  rectangle: -129.53,-78.74 -70.47,-19.69
  rectangle: -29.53,-78.74 29.53,-19.69
  rectangle: 70.47,-78.74 129.53,-19.69
  rectangle: 170.47,-78.74 229.53,-19.69
  rectangle: 270.47,-78.74 329.53,-19.69
  region: 29.53,-127.95 -29.53,-127.95 -29.53,-157.48 29.53,-157.48
  region: 229.53,-127.95 170.47,-127.95 170.47,-157.48 229.53,-157.48
  region: 129.53,-127.95 70.47,-127.95 70.47,-157.48 129.53,-157.48
  region: 329.53,-127.95 270.47,-127.95 270.47,-157.48 329.53,-157.48
  rectangle: 270.47,127.95 329.53,157.48
  rectangle: 70.47,127.95 129.53,157.48
  rectangle: 170.47,127.95 229.53,157.48
  rectangle: -29.53,127.95 29.53,157.48
  rectangle: -229.53,127.95 -170.47,157.48
  rectangle: -129.53,127.95 -70.47,157.48
  rectangle: -329.53,127.95 -270.47,157.48
  lines w8: -375,-126.97 374.02,-126.97 ; -375,126.97 374.02,126.97 ; -329.53,-78.74 -270.47,-78.74 ; -329.53,78.74 -270.47,78.74 ; -229.53,-78.74 -170.47,-78.74 ; -229.53,78.74 -170.47,78.74 ; -129.53,-78.74 -70.47,-78.74 ; -129.53,78.74 -70.47,78.74 ; -29.53,-78.74 29.53,-78.74 ; -29.53,78.74 29.53,78.74 ; 70.47,-78.74 129.53,-78.74 ; 70.47,78.74 129.53,78.74 ; 170.47,-78.74 229.53,-78.74 ; 170.47,78.74 229.53,78.74 ; 270.47,-78.74 329.53,-78.74 ; 270.47,78.74 329.53,78.74
  text "ON" at -319.69,89.57 h37.2
  text "1" at -307.87,-112.2 h37.2
  text "2" at -207.87,-112.2 h37.2
  text "3" at -107.87,-112.2 h37.2
  text "4" at -7.87,-112.2 h37.2
  text "5" at 92.13,-112.2 h37.2
  text "6" at 192.13,-112.2 h37.2
  text "7" at 292.13,-112.2 h37.2

## CTS-219-08 [mil]
pads (16):
  rect 44.49x96.06 smd: 1(-350,-169.29) 2(-250,-169.29) 3(-150,-169.29) 4(-50,-169.29) 5(50,-169.29) 6(150,-169.29) 7(250,-169.29) 8(350,-169.29) 9(350,169.29) 10(250,169.29) 11(150,169.29) 12(50,169.29) 13(-50,169.29) 14(-150,169.29) 15(-250,169.29) 16(-350,169.29)
Top Overlay:
  rectangle: -379.53,-78.74 -320.47,-19.69
  rectangle: -279.53,-78.74 -220.47,-19.69
  rectangle: -179.53,-78.74 -120.47,-19.69
  rectangle: -79.53,-78.74 -20.47,-19.69
  rectangle: 20.47,-78.74 79.53,-19.69
  rectangle: 120.47,-78.74 179.53,-19.69
  rectangle: 220.47,-78.74 279.53,-19.69
  rectangle: 320.47,-78.74 379.53,-19.69
  lines w8: -424.02,-78.74 -375.79,-126.97 ; -403.15,-126.97 -375.79,-126.97 ; -403.15,126.97 -425,126.97 -425,-126.97 -375.79,-126.97 ; -303.15,-126.97 -297.83,-126.97 ; -303.15,126.97 -297.83,126.97 ; -203.15,-126.97 -197.83,-126.97 ; -203.15,126.97 -197.83,126.97 ; -103.15,-126.97 -97.83,-126.97 ; -103.15,126.97 -97.83,126.97 ; -3.15,-126.97 2.17,-126.97 ; -3.15,126.97 2.17,126.97 ; 96.85,-126.97 102.17,-126.97 ; 96.85,126.97 102.17,126.97 ; 196.85,-126.97 202.17,-126.97 ; 196.85,126.97 202.17,126.97 ; 296.85,-126.97 302.17,-126.97 ; 296.85,126.97 302.17,126.97 ; 402.17,-126.97 424.02,-126.97 424.02,126.97 402.17,126.97 ; -379.53,-78.74 -320.47,-78.74 -320.47,78.74 -379.53,78.74 -379.53,-78.74 ; -279.53,-78.74 -220.47,-78.74 -220.47,78.74 -279.53,78.74 -279.53,-78.74 ; -179.53,-78.74 -120.47,-78.74 -120.47,78.74 -179.53,78.74 -179.53,-78.74 ; -79.53,-78.74 -20.47,-78.74 -20.47,78.74 -79.53,78.74 -79.53,-78.74 ; 20.47,-78.74 79.53,-78.74 79.53,78.74 20.47,78.74 20.47,-78.74 ; 120.47,-78.74 179.53,-78.74 179.53,78.74 120.47,78.74 120.47,-78.74 ; 220.47,-78.74 279.53,-78.74 279.53,78.74 220.47,78.74 220.47,-78.74 ; 320.47,-78.74 379.53,-78.74 379.53,78.74 320.47,78.74 320.47,-78.74
  text "ON" at -369.69,89.57 h37.2
  text "1" at -357.87,-112.2 h37.2
  text "2" at -257.87,-112.2 h37.2
  text "3" at -157.87,-112.2 h37.2
  text "4" at -57.87,-112.2 h37.2
  text "5" at 42.13,-112.2 h37.2
  text "6" at 142.13,-112.2 h37.2
  text "7" at 242.13,-112.2 h37.2
  text "8" at 342.13,-112.2 h37.2
Mechanical 16:
  region: -320.47,-127.95 -379.53,-127.95 -379.53,-157.48 -320.47,-157.48
  region: -120.47,-127.95 -179.53,-127.95 -179.53,-157.48 -120.47,-157.48
  region: -220.47,-127.95 -279.53,-127.95 -279.53,-157.48 -220.47,-157.48
  region: -20.47,-127.95 -79.53,-127.95 -79.53,-157.48 -20.47,-157.48
  region: 179.53,-127.95 120.47,-127.95 120.47,-157.48 179.53,-157.48
  region: 79.53,-127.95 20.47,-127.95 20.47,-157.48 79.53,-157.48
  region: 279.53,-127.95 220.47,-127.95 220.47,-157.48 279.53,-157.48
  region: 379.53,-127.95 320.47,-127.95 320.47,-157.48 379.53,-157.48
  rectangle: 320.47,127.95 379.53,157.48
  rectangle: 120.47,127.95 179.53,157.48
  rectangle: 220.47,127.95 279.53,157.48
  rectangle: 20.47,127.95 79.53,157.48
  rectangle: -179.53,127.95 -120.47,157.48
  rectangle: -79.53,127.95 -20.47,157.48
  rectangle: -279.53,127.95 -220.47,157.48
  rectangle: -379.53,127.95 -320.47,157.48
  region: -340.16,194.88 -359.84,194.88 -359.84,157.48 -340.16,157.48
  rectangle: -359.84,-194.88 -340.16,-157.48
  region: -240.16,194.88 -259.84,194.88 -259.84,157.48 -240.16,157.48
  rectangle: -259.84,-194.88 -240.16,-157.48
  region: -140.16,194.88 -159.84,194.88 -159.84,157.48 -140.16,157.48
  rectangle: -159.84,-194.88 -140.16,-157.48
  region: -40.16,194.88 -59.84,194.88 -59.84,157.48 -40.16,157.48
  rectangle: -59.84,-194.88 -40.16,-157.48
  region: 59.84,194.88 40.16,194.88 40.16,157.48 59.84,157.48
  rectangle: 40.16,-194.88 59.84,-157.48
  region: 159.84,194.88 140.16,194.88 140.16,157.48 159.84,157.48
  rectangle: 140.16,-194.88 159.84,-157.48
  region: 259.84,194.88 240.16,194.88 240.16,157.48 259.84,157.48
  rectangle: 240.16,-194.88 259.84,-157.48
  region: 359.84,194.88 340.16,194.88 340.16,157.48 359.84,157.48
  rectangle: 340.16,-194.88 359.84,-157.48
  lines w8: -425,-126.97 424.02,-126.97 ; -425,126.97 424.02,126.97

## CTS-219-08J [mil]
pads (16):
  rect 44.49x96.06 smd: 1(-350,-126.57) 2(-250,-126.57) 3(-150,-126.57) 4(-50,-126.57) 5(50,-126.57) 6(150,-126.57) 7(250,-126.57) 8(350,-126.57) 9(350,126.57) 10(250,126.57) 11(150,126.57) 12(50,126.57) 13(-50,126.57) 14(-150,126.57) 15(-250,126.57) 16(-350,126.57)
Top Overlay:
  lines w8: -424.02,-78.74 -375.79,-126.97 ; -403.15,-126.97 -375.79,-126.97 ; -403.15,126.97 -425,126.97 -425,-126.97 -375.79,-126.97 ; -379.53,-78.74 -379.53,78.74 ; -320.47,-78.74 -320.47,78.74 ; -303.15,-126.97 -297.83,-126.97 ; -302.17,126.97 -296.85,126.97 ; -279.53,-78.74 -279.53,78.74 ; -220.47,-78.74 -220.47,78.74 ; -203.15,-126.97 -197.83,-126.97 ; -202.17,126.97 -196.85,126.97 ; -179.53,-78.74 -179.53,78.74 ; -120.47,-78.74 -120.47,78.74 ; -103.15,-126.97 -97.83,-126.97 ; -102.17,126.97 -96.85,126.97 ; -79.53,-78.74 -79.53,78.74 ; -20.47,-78.74 -20.47,78.74 ; -3.15,-126.97 2.17,-126.97 ; -2.17,126.97 3.15,126.97 ; 20.47,-78.74 20.47,78.74 ; 79.53,-78.74 79.53,78.74 ; 96.85,-126.97 102.17,-126.97 ; 97.83,126.97 103.15,126.97 ; 120.47,-78.74 120.47,78.74 ; 179.53,-78.74 179.53,78.74 ; 196.85,-126.97 202.17,-126.97 ; 197.83,126.97 203.15,126.97 ; 220.47,-78.74 220.47,78.74 ; 279.53,-78.74 279.53,78.74 ; 296.85,-126.97 302.17,-126.97 ; 297.83,126.97 303.15,126.97 ; 320.47,-78.74 320.47,78.74 ; 379.53,-78.74 379.53,78.74 ; 402.17,-126.97 424.02,-126.97 424.02,126.97 402.17,126.97
Mechanical 16:
  region: -320.47,-127.95 -379.53,-127.95 -379.53,-157.48 -320.47,-157.48
  rectangle: -379.53,-78.74 -320.47,-19.69
  region: -120.47,-127.95 -179.53,-127.95 -179.53,-157.48 -120.47,-157.48
  region: -220.47,-127.95 -279.53,-127.95 -279.53,-157.48 -220.47,-157.48
  rectangle: -279.53,-78.74 -220.47,-19.69
  rectangle: -179.53,-78.74 -120.47,-19.69
  rectangle: -79.53,-78.74 -20.47,-19.69
  rectangle: 20.47,-78.74 79.53,-19.69
  rectangle: 120.47,-78.74 179.53,-19.69
  rectangle: 220.47,-78.74 279.53,-19.69
  rectangle: 320.47,-78.74 379.53,-19.69
  region: -20.47,-127.95 -79.53,-127.95 -79.53,-157.48 -20.47,-157.48
  region: 179.53,-127.95 120.47,-127.95 120.47,-157.48 179.53,-157.48
  region: 79.53,-127.95 20.47,-127.95 20.47,-157.48 79.53,-157.48
  region: 279.53,-127.95 220.47,-127.95 220.47,-157.48 279.53,-157.48
  region: 379.53,-127.95 320.47,-127.95 320.47,-157.48 379.53,-157.48
  rectangle: 320.47,127.95 379.53,157.48
  rectangle: 120.47,127.95 179.53,157.48
  rectangle: 220.47,127.95 279.53,157.48
  rectangle: 20.47,127.95 79.53,157.48
  rectangle: -179.53,127.95 -120.47,157.48
  rectangle: -79.53,127.95 -20.47,157.48
  rectangle: -279.53,127.95 -220.47,157.48
  rectangle: -379.53,127.95 -320.47,157.48
  lines w8: -425,-126.97 424.02,-126.97 ; -425,126.97 424.02,126.97 ; -379.53,-78.74 -320.47,-78.74 ; -379.53,78.74 -320.47,78.74 ; -279.53,-78.74 -220.47,-78.74 ; -279.53,78.74 -220.47,78.74 ; -179.53,-78.74 -120.47,-78.74 ; -179.53,78.74 -120.47,78.74 ; -79.53,-78.74 -20.47,-78.74 ; -79.53,78.74 -20.47,78.74 ; 20.47,-78.74 79.53,-78.74 ; 20.47,78.74 79.53,78.74 ; 120.47,-78.74 179.53,-78.74 ; 120.47,78.74 179.53,78.74 ; 220.47,-78.74 279.53,-78.74 ; 220.47,78.74 279.53,78.74 ; 320.47,-78.74 379.53,-78.74 ; 320.47,78.74 379.53,78.74
  text "ON" at -369.69,89.57 h37.2
  text "1" at -357.87,-112.2 h37.2
  text "2" at -257.87,-112.2 h37.2
  text "3" at -157.87,-112.2 h37.2
  text "4" at -57.87,-112.2 h37.2
  text "5" at 42.13,-112.2 h37.2
  text "6" at 142.13,-112.2 h37.2
  text "7" at 242.13,-112.2 h37.2
  text "8" at 342.13,-112.2 h37.2